# Altium footprint library ZYF_Connector.PcbLib: 43 footprints (part 2 of 3)
Each footprint in its own frame and in the unit in brackets; x right, y up, seen from the top. Pads: shape width x height; smd on the part's side, far side on the other; paste and mask are expansions set on the pad; w line width, h text height; cw(c..) or ccw(c..) is an arc to the next point about the centre after c.
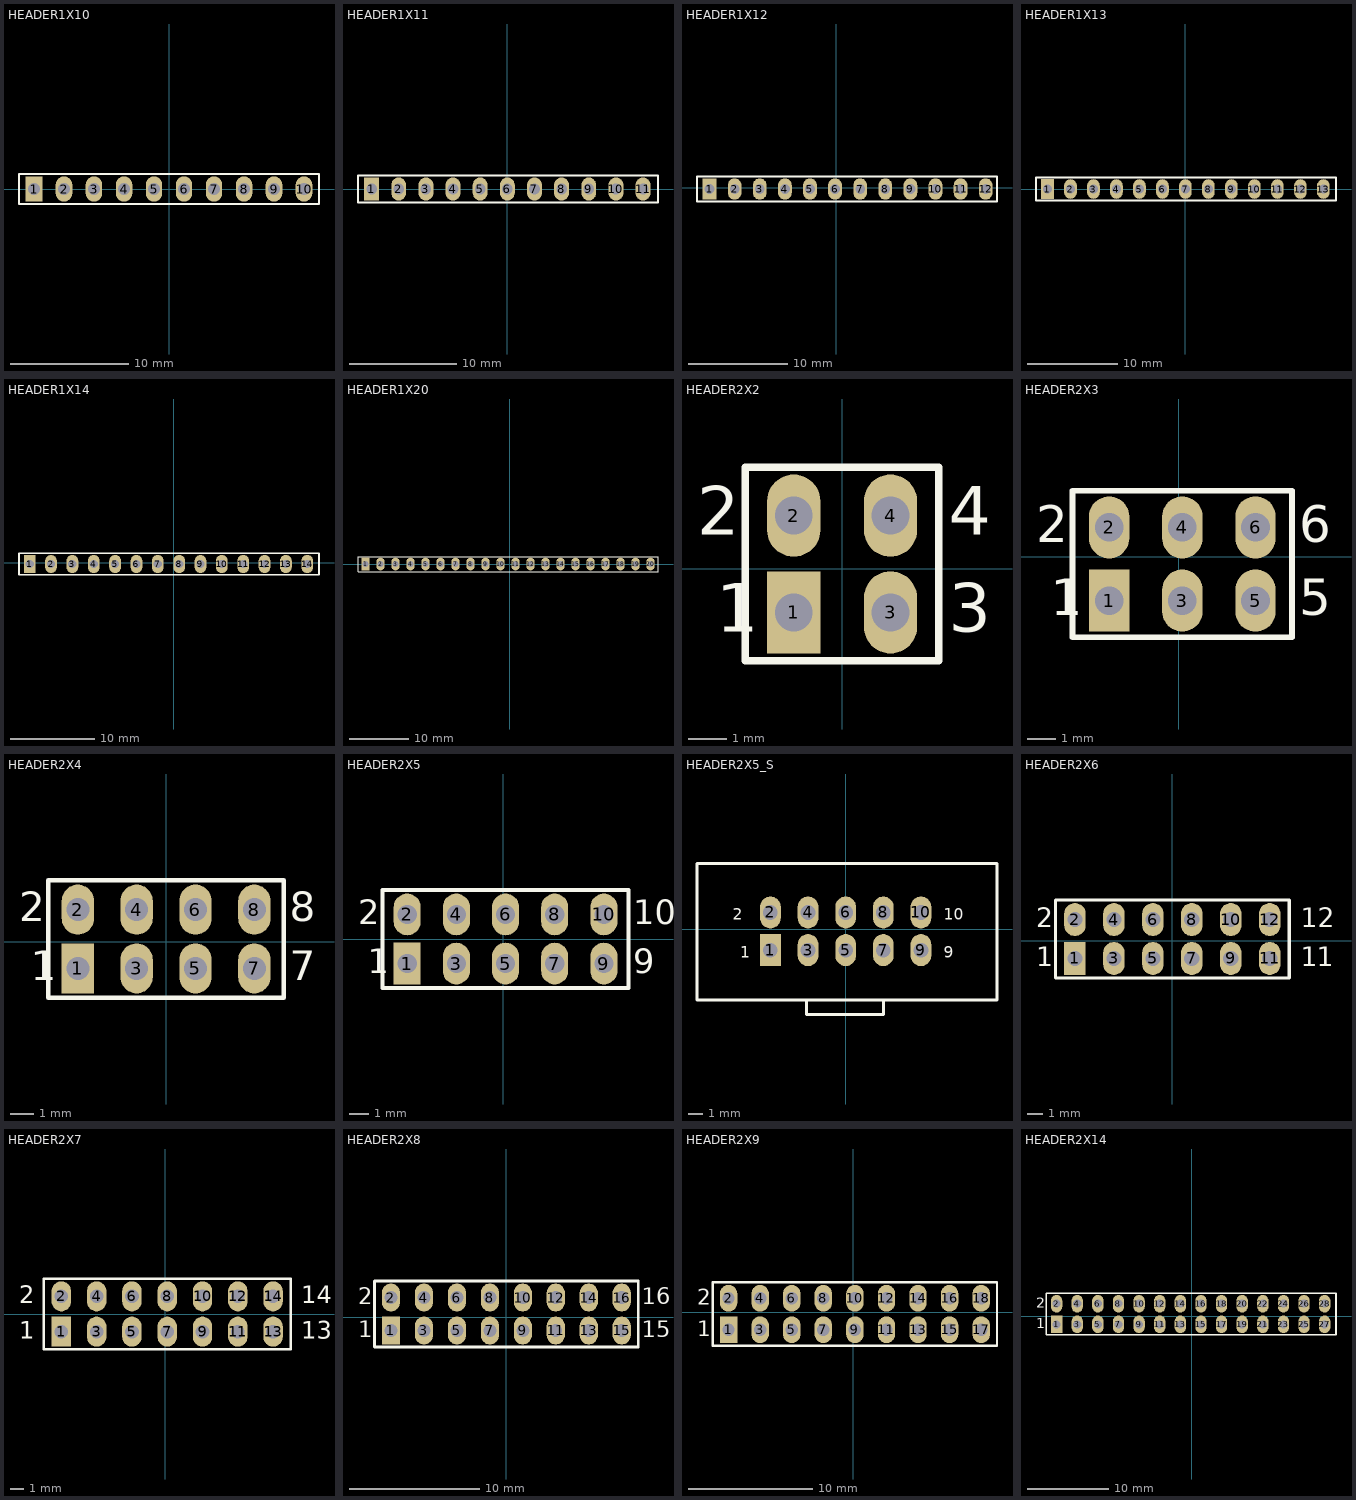
[diagram p1: the footprints below, top view; thin cyan lines are the x and y axes]

## HEADER1X10 [mil]
pads (10):
  rect 55x85 hole 39: 1(-450,0)
  oval 55x85 hole 39: 2(-350,0) 3(-250,0) 4(-150,0) 5(-50,0) 6(50,0) 7(150,0) 8(250,0) 9(350,0) 10(450,0)
Top Overlay:
  lines w7.87: -500,-50 -500,50 -425,50 500,50 500,-50 -500,-50
3D body: height 322.83, standoff -118.11, extent -1.05,-49.04 498.94,49.32
3D body: height 322.83, standoff -118.11, extent -501.05,-49.04 -1.06,49.32

## HEADER1X11 [mil]
pads (11):
  rect 55x85 hole 39: 1(-500,0)
  oval 55x85 hole 39: 2(-400,0) 3(-300,0) 4(-200,0) 5(-100,0) 6(0,0) 7(100,0) 8(200,0) 9(300,0) 10(400,0) 11(500,0)
Top Overlay:
  lines w7.87: -550,-50 -550,50 -475,50 555,50 555,-50 -550,-50
3D body: height 322.83, standoff -118.11, extent -545,-45 -45,53.36
3D body: height 322.83, standoff -118.11, extent -45,-45 555,53.36

## HEADER1X12 [mil]
pads (12):
  rect 55x85 hole 39: 1(-505,-5)
  oval 55x85 hole 39: 2(-405,-5) 3(-305,-5) 4(-205,-5) 5(-105,-5) 6(-5,-5) 7(95,-5) 8(195,-5) 9(295,-5) 10(395,-5) 11(495,-5) 12(595,-5)
Top Overlay:
  lines w7.87: -555,-55 -555,45 -480,45 640,45 640,-55 -555,-55
3D body: height 322.83, standoff -118.11, extent 50,-55 650,43.36
3D body: height 322.83, standoff -118.11, extent -550,-55 50,43.36

## HEADER1X13 [mil]
pads (13):
  rect 55x85 hole 39: 1(-600,0)
  oval 55x85 hole 39: 2(-500,0) 3(-400,0) 4(-300,0) 5(-200,0) 6(-100,0) 7(0,0) 8(100,0) 9(200,0) 10(300,0) 11(400,0) 12(500,0) 13(600,0)
Top Overlay:
  lines w7.87: -650,-50 -650,50 -575,50 655,50 655,-50 -650,-50
3D body: height 322.83, standoff -118.11, extent -150,-50 350,48.36
3D body: height 322.83, standoff -118.11, extent -650,-49.18 -150,49.18
3D body: height 322.83, standoff -118.11, extent 350,-48.36 650,50

## HEADER1X14 [mil]
pads (14):
  rect 55x85 hole 39: 1(-675,-5)
  oval 55x85 hole 39: 2(-575,-5) 3(-475,-5) 4(-375,-5) 5(-275,-5) 6(-175,-5) 7(-75,-5) 8(25,-5) 9(125,-5) 10(225,-5) 11(325,-5) 12(425,-5) 13(525,-5) 14(625,-5)
Top Overlay:
  lines w7.87: -725,-55 -725,45 -650,45 680,45 680,-55 -725,-55
3D body: height 322.83, standoff -118.11, extent 280,-58.36 680,40
3D body: height 322.83, standoff -118.11, extent -220,-58.36 280,40
3D body: height 322.83, standoff -118.11, extent -720,-58.36 -220,40

## HEADER1X20 [mil]
pads (20):
  rect 55x85 hole 39: 1(-960,0)
  oval 55x85 hole 39: 2(-860,0) 3(-760,0) 4(-660,0) 5(-560,0) 6(-460,0) 7(-360,0) 8(-260,0) 9(-160,0) 10(-60,0) 11(40,0) 12(140,0) 13(240,0) 14(340,0) 15(440,0) 16(540,0) 17(640,0) 18(740,0) 19(840,0) 20(940,0)
Top Overlay:
  lines w7.87: -1010,-50 990,-50 990,50 -935,50 -1010,50 -1010,-50
3D body: height 322.83, standoff -118.11, extent -1005,-53.36 -505,45
3D body: height 322.83, standoff -118.11, extent -505,-53.36 -5,45
3D body: height 322.83, standoff -118.11, extent -5,-53.36 495,45
3D body: height 322.83, standoff -118.11, extent 495,-53.36 995,45

## HEADER2X2 [mil]
pads (4):
  rect 55x85 hole 39: 1(-50,-45)
  oval 55x85 hole 39: 2(-50,55) 3(50,-45) 4(50,55)
Top Overlay:
  lines w7.87: -100,-95 -100,105 100,105 100,-95 -100,-95
  text "1" at -130,-65 h50
  text "2" at -150,35 h50
  text "4" at 110,35 h50
  text "3" at 110,-65 h50
3D body: height 351.79, standoff -80.49, extent -100,5 100,105
3D body: height 351.79, standoff -80.49, extent -100,-95 100,5

## HEADER2X3 [mil]
pads (6):
  rect 55x85 hole 39: 1(-95,-60)
  oval 55x85 hole 39: 2(-95,40) 3(5,-60) 4(5,40) 5(105,-60) 6(105,40)
Top Overlay:
  lines w7.87: -36.67,-110 155,-110 ; 155,-110 155,90 -145,90 -145,-110 155,-110
  text "6" at 165,20 h50
  text "5" at 165,-80 h50
  text "2" at -195,20 h50
  text "1" at -175,-80 h50
3D body: height 322.83, standoff -118.11, extent -145,-111.73 155,-13.36
3D body: height 322.83, standoff -118.11, extent -145,-13.36 155,85

## HEADER2X4 [mil]
pads (8):
  rect 55x85 hole 39: 1(-150,-45)
  oval 55x85 hole 39: 2(-150,55) 3(-50,-45) 4(-50,55) 5(50,-45) 6(50,55) 7(150,-45) 8(150,55)
Top Overlay:
  lines w7.87: -200,-95 200,-95 200,105 -200,105 -200,-95
  text "2" at -250,35 h50
  text "1" at -230,-65 h50
  text "7" at 210,-65 h50
  text "8" at 210,35 h50
3D body: height 322.83, standoff -118.11, extent -200,6.64 200,105
3D body: height 322.83, standoff -118.11, extent -200,-91.73 200,6.64

## HEADER2X5 [mil]
pads (10):
  rect 55x85 hole 39: 1(-195,-50)
  oval 55x85 hole 39: 2(-195,50) 3(-95,-50) 4(-95,50) 5(5,-50) 6(5,50) 7(105,-50) 8(105,50) 9(205,-50) 10(205,50)
Top Overlay:
  lines w7.87: -245,-100 -245,100 255,100 255,-100 -245,-100
  text "2" at -295,30 h50
  text "1" at -275,-70 h50
  text "9" at 265,-70 h50
  text "10" at 265,30 h50
3D body: height 322.83, standoff -118.11, extent -246.05,-97.4 253.94,0.96
3D body: height 322.83, standoff -118.11, extent -246.05,0.96 253.94,99.32

## HEADER2X5_S [mil]
pads (10):
  rect 55x85 hole 39: 1(-200,-55)
  oval 55x85 hole 39: 2(-200,45) 3(-100,-55) 4(-100,45) 5(0,-55) 6(0,45) 7(100,-55) 8(100,45) 9(200,-55) 10(200,45)
Top Overlay:
  lines w7.87: -101,-188 -104,-191 -104,-226 101,-226 101,-188 ; -395,-188 -395,175 402,175 402,-188 -395,-188
  text "2" at -300,25 h30
  text "1" at -280,-75 h30
  text "9" at 260,-75 h30
  text "10" at 260,25 h30
3D body: height 354.33, standoff -64.7, extent -402.99,-197.96 397.01,176.06

## HEADER2X6 [mil]
pads (12):
  rect 55x85 hole 39: 1(-250,-45)
  oval 55x85 hole 39: 2(-250,55) 3(-150,-45) 4(-150,55) 5(-50,-45) 6(-50,55) 7(50,-45) 8(50,55) 9(150,-45) 10(150,55) 11(250,-45) 12(250,55)
Top Overlay:
  lines w7.87: -300,-95 300,-95 300,105 -300,105 -300,-95
  text "12" at 330,35 h50
  text "1" at 370,-65 h50
  text "1" at 330,-65 h50
  text "1" at -350,-65 h50
  text "2" at -350,35 h50
3D body: height 351.79, standoff -80.49, extent -297.5,-97.5 -197.5,102.5
3D body: height 351.79, standoff -80.49, extent -197.5,-97.5 -97.5,102.5
3D body: height 351.79, standoff -80.49, extent -97.5,-97.5 2.5,102.5
3D body: height 351.79, standoff -80.49, extent 2.5,-97.5 102.5,102.5
3D body: height 351.79, standoff -80.49, extent 102.5,-97.5 202.5,102.5
3D body: height 351.79, standoff -80.49, extent 202.5,-97.5 302.5,102.5

## HEADER2X7 [mil]
pads (14):
  rect 55x85 hole 39: 1(-295,-50)
  oval 55x85 hole 39: 2(-295,50) 3(-195,-50) 4(-195,50) 5(-95,-50) 6(-95,50) 7(5,-50) 8(5,50) 9(105,-50) 10(105,50) 11(205,-50) 12(205,50) 13(305,-50) 14(305,50)
Top Overlay:
  lines w7.87: -345,-100 -345,100 355,100 355,-100 -345,-100
  text "2" at -415,30 h50
  text "1" at -415,-70 h50
  text "14" at 385,30 h50
  text "13" at 385,-70 h50
3D body: height 351.79, standoff -80.49, extent -342.5,-105 -242.5,95
3D body: height 351.79, standoff -80.49, extent -242.5,-105 -142.5,95
3D body: height 351.79, standoff -80.49, extent -142.5,-105 -42.5,95
3D body: height 351.79, standoff -80.49, extent -42.5,-105 57.5,95
3D body: height 351.79, standoff -80.49, extent 57.5,-105 157.5,95
3D body: height 351.79, standoff -80.49, extent 157.5,-105 257.5,95
3D body: height 351.79, standoff -80.49, extent 257.5,-105 357.5,95

## HEADER2X8 [mil]
pads (16):
  rect 55x85 hole 39: 1(-350,-40)
  oval 55x85 hole 39: 2(-350,60) 3(-250,-40) 4(-250,60) 5(-150,-40) 6(-150,60) 7(-50,-40) 8(-50,60) 9(50,-40) 10(50,60) 11(150,-40) 12(150,60) 13(250,-40) 14(250,60) 15(350,-40) 16(350,60)
Top Overlay:
  lines w7.87: -400,-90 400,-90 400,110 -400,110 -400,-90
  text "16" at 410,40 h50
  text "15" at 410,-60 h50
  text "1" at -450,-60 h50
  text "2" at -450,40 h50
3D body: height 322.83, standoff -118.11, extent -397.5,9.14 2.5,107.5
3D body: height 322.83, standoff -118.11, extent -397.5,-89.23 2.5,9.14
3D body: height 322.83, standoff -118.11, extent 2.5,9.14 402.49,107.5
3D body: height 322.83, standoff -118.11, extent 2.5,-89.23 402.49,9.14

## HEADER2X9 [mil]
pads (18):
  rect 55x85 hole 39: 1(-395,-55)
  oval 55x85 hole 39: 2(-395,45) 3(-295,-55) 4(-295,45) 5(-195,-55) 6(-195,45) 7(-95,-55) 8(-95,45) 9(5,-55) 10(5,45) 11(105,-55) 12(105,45) 13(205,-55) 14(205,45) 15(305,-55) 16(305,45) 17(405,-55) 18(405,45)
Top Overlay:
  lines w7.87: -445,-105 -445,95 455,95 455,-105 -445,-105
  text "2" at -495,25 h50
  text "1" at -495,-75 h50
3D body: height 321.79, standoff -110.49, extent 357.5,-107.5 457.5,92.5
3D body: height 322.83, standoff -118.11, extent -442.5,-9.18 -42.5,89.18
3D body: height 322.83, standoff -118.11, extent -442.5,-107.55 -42.5,-9.18
3D body: height 322.83, standoff -118.11, extent -42.5,-9.18 357.49,89.18
3D body: height 322.83, standoff -118.11, extent -42.5,-107.55 357.49,-9.18

## HEADER2X14 [mil]
pads (28):
  rect 55x85 hole 39: 1(-655,-40)
  oval 55x85 hole 39: 2(-655,60) 3(-555,-40) 4(-555,60) 5(-455,-40) 6(-455,60) 7(-355,-40) 8(-355,60) 9(-255,-40) 10(-255,60) 11(-155,-40) 12(-155,60) 13(-55,-40) 14(-55,60) 15(45,-40) 16(45,60) 17(145,-40) 18(145,60) 19(245,-40) 20(245,60) 21(345,-40) 22(345,60) 23(445,-40) 24(445,60) 25(545,-40) 26(545,60) 27(645,-40) 28(645,60)
Top Overlay:
  lines w7.87: -705,-90 -705,110 700,110 700,-90 -705,-90
  text "2" at -755,40 h50
  text "1" at -755,-60 h50
3D body: height 351.79, standoff -80.49, extent 497.5,-92.5 697.5,7.5
3D body: height 351.79, standoff -80.49, extent 497.5,7.5 697.5,107.5
3D body: height 351.79, standoff -80.49, extent 297.5,-92.5 497.5,7.5
3D body: height 351.79, standoff -80.49, extent 297.5,7.5 497.5,107.5
3D body: height 351.79, standoff -80.49, extent 97.5,-92.5 297.5,7.5
3D body: height 351.79, standoff -80.49, extent 97.5,7.5 297.5,107.5
3D body: height 351.79, standoff -80.49, extent -102.5,-92.5 97.5,7.5
3D body: height 351.79, standoff -80.49, extent -102.5,7.5 97.5,107.5
3D body: height 351.79, standoff -80.49, extent -302.5,-92.5 -102.5,7.5
3D body: height 351.79, standoff -80.49, extent -302.5,7.5 -102.5,107.5
3D body: height 351.79, standoff -80.49, extent -502.5,-92.5 -302.5,7.5
3D body: height 351.79, standoff -80.49, extent -502.5,7.5 -302.5,107.5
3D body: height 351.79, standoff -80.49, extent -702.5,7.5 -502.5,107.5
3D body: height 351.79, standoff -80.49, extent -702.5,-92.5 -502.5,7.5